# EAGLE library part MOD_RDA5807M (library akita)
aitendo, RDA5807M, FM radio module
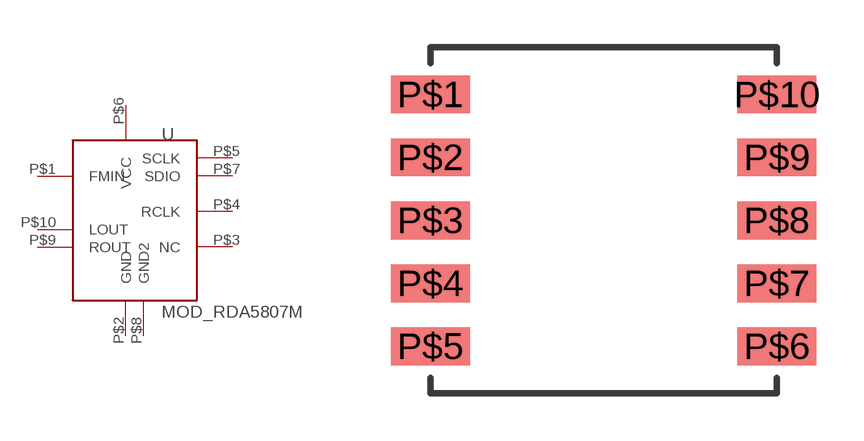
[diagram p184: symbol with the pads of MOD_RDA5807; footprint MOD_RDA5807]

Designator prefix U

## MOD_RDA5807M  [MOD_RDA5807]
P$1  FMIN
P$2  GND
P$3  NC
P$4  RCLK
P$5  SCLK
P$6  VCC
P$7  SDIO
P$8  GND2
P$9  ROUT
P$10  LOUT

## Footprint MOD_RDA5807 (pad centres in mm)
aitendo, RDA5807M, FM radio module
smd 2.5 x 1.2: P$1 -5.5,4; P$2 -5.5,2; P$3 -5.5,0; P$4 -5.5,-2; P$5 -5.5,-4; P$6 5.5,-4; P$7 5.5,-2; P$8 5.5,0; P$9 5.5,2; P$10 5.5,4